# Altium footprint library CONN-STD-USB_A.PcbLib: 1 footprints
Each footprint in its own frame and in the unit in brackets; x right, y up, seen from the top. Pads: shape width x height; smd on the part's side, far side on the other; paste and mask are expansions set on the pad; w line width, h text height; cw(c..) or ccw(c..) is an arc to the next point about the centre after c.
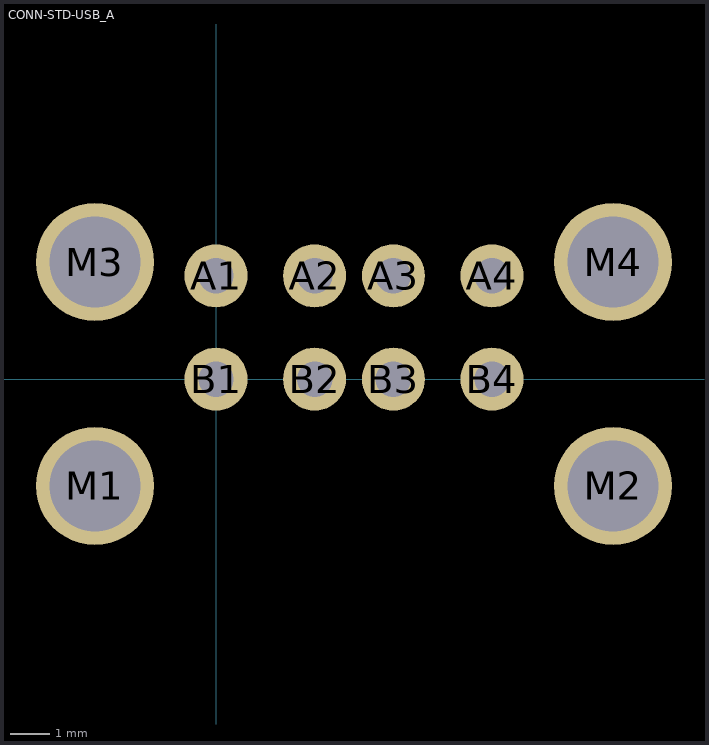
[diagram p0: the footprint, top view; thin cyan lines are the x and y axes]

## CONN-STD-USB_A [mm]
height 5.33
pads (12):
  round 1.6 hole 0.9: A1(0,2.62) A2(2.5,2.62) A3(4.5,2.62) A4(7,2.62) B1(0,0) B2(2.5,0) B3(4.5,0) B4(7,0)
  round 3 hole 2.3: M1(-3.07,-2.71) M2(10.07,-2.71) M3(-3.07,2.97) M4(10.07,2.97)
3D body: height 16.09, standoff -2.89, extent -3.944,-13.735 11.056,4.464